# Altium footprint library Coil-13x7x5.PcbLib: 1 footprints
Each footprint in its own frame and in the unit in brackets; x right, y up, seen from the top. Pads: shape width x height; smd on the part's side, far side on the other; paste and mask are expansions set on the pad; w line width, h text height; cw(c..) or ccw(c..) is an arc to the next point about the centre after c.
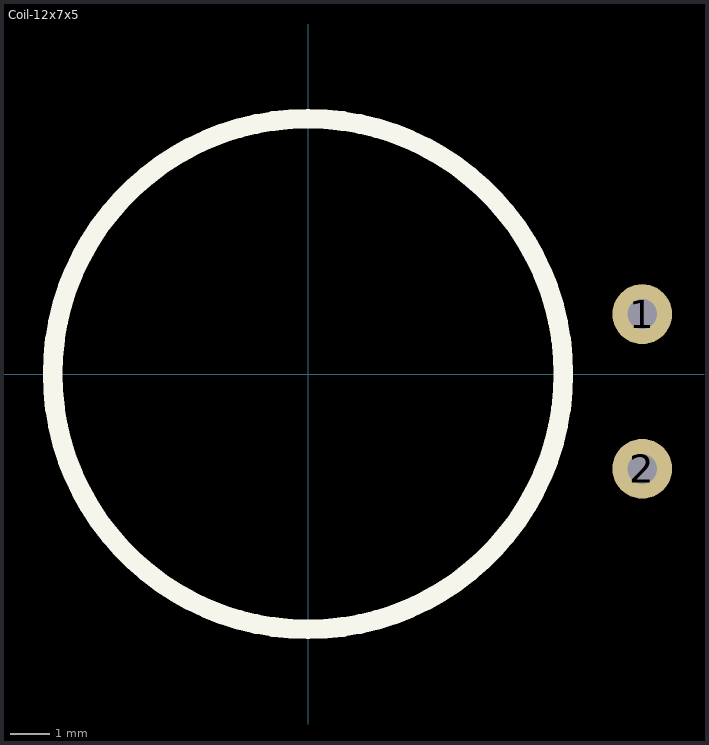
[diagram p0: the footprint, top view; thin cyan lines are the x and y axes]

## Coil-12x7x5 [mil]
pads (2):
  round 60 hole 30: 1(335,60) 2(335,-95)
Top Overlay:
  circle w19.68: c0,0 r255.98
Bottom Overlay:
  circle w19.68: c0,0 r272.81
Multi-Layer:
  circle w10: c0,0 r57.01
3D body "Coil-13x7x5.STEP": height 296.26, standoff -150.59, extent -283.55,-283.55 348.43,283.55